# Altium integrated library CRM2512-FX-4R70ELF.IntLib: 1 symbol
Pins are listed as number, name and electrical type; pins without a type are passive.

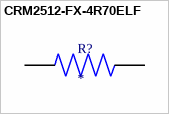
[diagram p0: symbol CRM2512-FX-4R70ELF]

## CRM2512-FX-4R70ELF
designator R?
Thick Film Resistors - SMD 2watts 1% 4.7ohms 100 PPM 2512; MP: CRM2512-FX-4R70ELF; Package: None; Price: None; Value: *; Availability: Unavailable
footprint RESC6331X80N
pins: 1, 2